# Altium schematic symbol library IC_Texas_Instruments_BQ24259RGER_eec.SchLib: 1 symbol
Pins are listed as number, name and electrical type; pins without a type are passive.

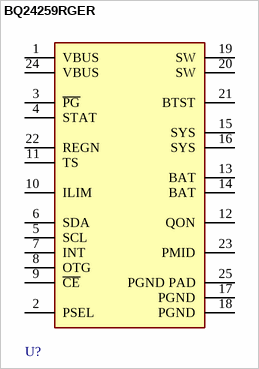
[diagram p0: symbol BQ24259RGER]

## BQ24259RGER
designator U?  (value not drawn)
pins: 1 VBUS, 2 PSEL, 3 ~{PG}, 4 STAT, 5 SCL, 6 SDA, 7 INT, 8 OTG, 9 ~{CE}, 10 ILIM, 11 TS, 12 QON, 13 BAT, 14 BAT, 15 SYS, 16 SYS, 17 PGND, 18 PGND, 19 SW, 20 SW, 21 BTST, 22 REGN, 23 PMID, 24 VBUS, 25 PGND PAD